# Altium footprint library RLC.PcbLib: 40 footprints (part 2 of 3)
Each footprint in its own frame and in the unit in brackets; x right, y up, seen from the top. Pads: shape width x height; smd on the part's side, far side on the other; paste and mask are expansions set on the pad; w line width, h text height; cw(c..) or ccw(c..) is an arc to the next point about the centre after c.
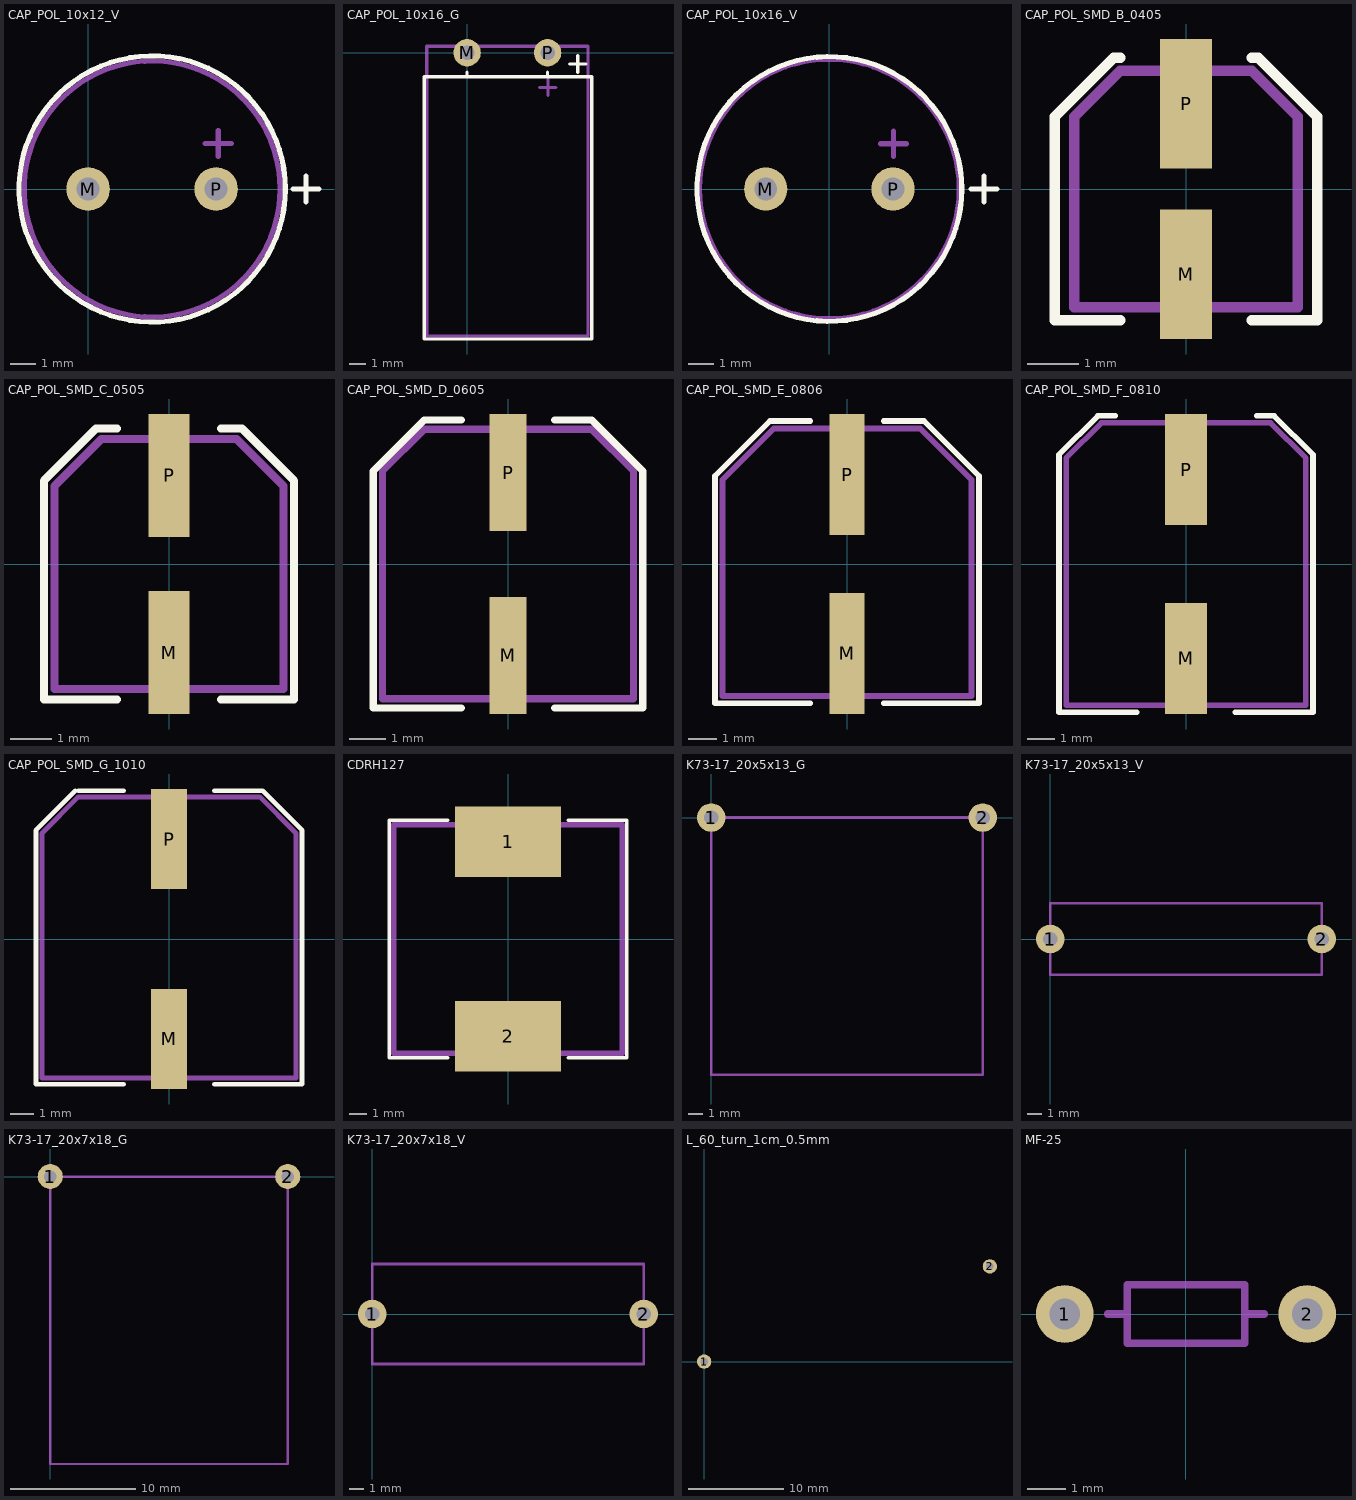
[diagram p1: the footprints below, top view; thin cyan lines are the x and y axes]

## CAP_POL_10x12_V [mm]
pads (2):
  round 1.7 hole 0.9: M(0,0) P(5,0)
Top Overlay:
  circle w0.2: c2.5,0 r5.2
  lines w0.2: 8.001,0 9.017,0 ; 8.509,-0.508 8.509,0.508
Mechanical 13:
  circle w0.2: c2.5,0 r5
  lines w0.2: 4.572,1.778 5.588,1.778 ; 5.08,1.27 5.08,2.286
  text ".Designator" at 0.381,-3.048 h2.5
3D body: height 13.03, standoff -3.48, extent -2.485,-5.098 7.565,4.953

## CAP_POL_10x16_G [mm]
pads (2):
  round 1.7 hole 0.9: M(0,0) P(5,0)
Top Overlay:
  lines w0.2: 0,-1.5 0,-1.2 ; 5,-1.5 5,-1.2 ; 6.368,-0.7 7.384,-0.7 ; 6.876,-1.208 6.876,-0.192 ; -2.667,-17.78 -2.667,-1.5 7.747,-1.5 7.747,-17.78 -2.667,-17.78
Mechanical 13:
  lines w0.2: 4.512,-2.159 5.528,-2.159 ; 5.02,-2.667 5.02,-1.651 ; -2.5,-17.6 -2.5,0.4 7.5,0.4 7.5,-17.6 -2.5,-17.6
  text ".Designator" at 0.381,-5.08 h2.5
3D body: height 10.53, standoff -3.18, extent -2.485,-17.608 7.565,0.381

## CAP_POL_10x16_V [mm]
pads (2):
  round 1.7 hole 0.9: M(-2.5,0) P(2.5,0)
Top Overlay:
  circle w0.2: c0,0 r5.2
  lines w0.2: 5.568,0 6.584,0 ; 6.076,-0.508 6.076,0.508
Mechanical 13:
  circle w0.2: c0,0 r5.1
  lines w0.2: 2.012,1.778 3.028,1.778 ; 2.52,1.27 2.52,2.286
  text ".Designator" at -2.159,-3.175 h2.5
3D body: height 16.53, standoff -3.74, extent -5.08,-5.025 4.971,5.025

## CAP_POL_SMD_B_0405 [mm]
pads (2):
  rect 1x2.5 smd: M(0,-1.65) P(0,1.65)
Top Overlay:
  lines w0.2: -1.27,-2.54 -2.54,-2.54 -2.54,1.397 -1.397,2.54 -1.27,2.54 ; 1.27,-2.54 2.54,-2.54 2.54,1.27 2.54,1.397 1.397,2.54 1.27,2.54
Mechanical 13:
  lines w0.2: -2.159,-2.286 2.159,-2.286 2.159,1.397 1.27,2.286 -1.27,2.286 -2.159,1.397 -2.159,-2.286
  text ".Designator" at -2.286,3.175 h2.5
3D body: height 5.41, standoff -0.01, extent -2.15,-2.314 2.15,2.286

## CAP_POL_SMD_C_0505 [mm]
pads (2):
  rect 1x3 smd: M(0,-2.159) P(0,2.159)
Top Overlay:
  lines w0.2: -1.27,-3.302 -3.048,-3.302 -3.048,1.651 -3.048,2.032 -1.778,3.302 -1.27,3.302 ; 1.27,-3.302 3.048,-3.302 3.048,2.032 1.778,3.302 1.27,3.302
Mechanical 13:
  lines w0.2: -2.794,-3.048 -2.794,1.905 -1.651,3.048 1.651,3.048 2.794,1.905 2.794,-3.048 -2.794,-3.048
  text ".Designator" at -0.762,-2.413 h2.5
3D body: height 5.41, standoff -0.01, extent -2.633,-2.95 2.667,2.95

## CAP_POL_SMD_D_0605 [mm]
pads (2):
  rect 1x3.2 smd: M(0,-2.5) P(0,2.5)
Top Overlay:
  lines w0.2: -1.27,-3.937 -3.683,-3.937 -3.683,2.54 -2.286,3.937 -1.27,3.937 ; 1.27,-3.937 3.683,-3.937 3.683,2.54 2.286,3.937 1.27,3.937
Mechanical 13:
  lines w0.2: -3.429,-3.683 3.429,-3.683 3.429,2.54 2.286,3.683 -2.286,3.683 -3.429,2.54 -3.429,-3.683
  text ".Designator" at -1.143,-2.921 h2.5
3D body: height 5.41, standoff -0.01, extent -3.298,-3.5 3.302,3.5

## CAP_POL_SMD_E_0806 [mm]
pads (2):
  rect 1.2x4.2 smd: M(0,-3.1) P(0,3.1)
Top Overlay:
  lines w0.2: -1.27,-4.826 -4.572,-4.826 -4.572,3.048 -2.667,4.953 -1.27,4.953 ; 1.27,-4.826 4.572,-4.826 4.572,3.048 2.667,4.953 1.27,4.953
Mechanical 13:
  lines w0.2: -4.318,-4.572 -4.318,2.921 -2.54,4.699 2.54,4.699 4.318,2.921 4.318,-4.572 -4.318,-4.572
  text ".Designator" at -1.524,-2.794 h2.5
3D body: height 6.2, standoff -0.01, extent -4.15,-4.445 4.15,4.555

## CAP_POL_SMD_F_0810 [mm]
pads (2):
  rect 1.5x4 smd: M(0,-3.4) P(0,3.4)
Top Overlay:
  lines w0.2: -2.54,5.334 -3.175,5.334 -4.572,3.937 -4.572,-5.334 -1.778,-5.334 ; 1.778,-5.334 4.572,-5.334 4.572,3.937 3.175,5.334 2.54,5.334
Mechanical 13:
  lines w0.2: -4.318,-5.08 4.318,-5.08 4.318,3.81 3.048,5.08 -3.048,5.08 -4.318,3.81 -4.318,-5.08
  text ".Designator" at -2.667,-0.635 h2.5
3D body: height 10.21, standoff -0.01, extent -4.15,-4.953 4.15,4.947

## CAP_POL_SMD_G_1010 [mm]
pads (2):
  rect 1.5x4.2 smd: M(0,-4.2) P(0,4.2)
Top Overlay:
  lines w0.2: -3.937,6.223 -5.588,4.572 -5.588,-6.096 -1.905,-6.096 ; -3.81,6.223 -1.905,6.223 ; 1.905,-6.096 5.588,-6.096 5.588,4.572 3.937,6.223 3.81,6.223 1.905,6.223
Mechanical 13:
  lines w0.2: -5.334,-5.842 5.334,-5.842 5.334,4.445 3.81,5.969 -3.81,5.969 -5.334,4.445 -5.334,-5.842
  text ".Designator" at -3.556,-1.016 h2.5
3D body: height 10.21, standoff -0.01, extent -5.15,-5.715 5.15,5.885

## CDRH127 [mm]
pads (2):
  rect 6x4 smd: 1(0,5.5) 2(0,-5.5)
Top Overlay:
  lines w0.2: -3.429,-6.731 -6.731,-6.731 -6.731,6.731 -3.429,6.731 ; 3.429,-6.731 6.731,-6.731 6.731,6.731 3.429,6.731
Mechanical 13:
  lines w0.3: -6.477,-6.477 6.477,-6.477 6.477,6.477 -6.477,6.477 -6.477,-6.477
  text ".Designator" at -4.572,-0.889 h2.5
3D body: height 8, standoff 0, extent -6.223,-6.223 6.223,6.223

## K73-17_20x5x13_G [mm]
pads (2):
  round 2 hole 1: 1(0,0) 2(19,0)
Mechanical 13:
  lines w0.2: 0,-18 0,0 19,0 19,-18 0,-18
  text ".Designator" at 4.572,-3.886 h2.5
3D body: height 5, standoff 0, extent 0.001,-18 18.999,-5.588

## K73-17_20x5x13_V [mm]
pads (2):
  round 2 hole 1: 1(0,0) 2(19,0)
Mechanical 13:
  lines w0.2: 0,-2.5 19,-2.5 19,0 19,2.5 0,2.5 0,0 0,-2.5
  text ".Designator" at 4.75,-0.762 h2.5
3D body: height 18, standoff 6, extent 0.001,-2.499 18.999,2.499

## K73-17_20x7x18_G [mm]
pads (2):
  round 2 hole 1: 1(0,0) 2(19,0)
Mechanical 13:
  lines w0.2: 0,-23 0,0 19,0 19,-23 0,-23
  text ".Designator" at 4.572,-3.886 h2.5
3D body: height 7, standoff 0, extent 0.001,-23 18.999,-5.588

## K73-17_20x7x18_V [mm]
pads (2):
  round 2 hole 1: 1(0,0) 2(19,0)
Mechanical 13:
  lines w0.2: 0,-3.5 0,3.5 19,3.5 19,-3.5 0,-3.5
  text ".Designator" at 4.674,-0.279 h2.5
3D body: height 22, standoff 4, extent 0,-3.545 18.999,3.5

## L_60_turn_1cm_0.5mm [mm]
pads (2):
  round 1.5 hole 0.8: 1(0,0) 2(30,10)
3D body: height 10.75, standoff -1.5, extent -0.254,-0.254 30.496,10.253

## MF-25 [mm]
pads (2):
  round 1.5 hole 0.8: 1(-3.15,0) 2(3.15,0)
Mechanical 13:
  lines w0.2: -2.032,0 -1.524,0 ; 1.524,0 2.032,0 ; -1.524,0 -1.524,-0.762 1.524,-0.762 1.524,0.762 -1.524,0.762 -1.524,0
  text ".Designator" at -1.27,1.27 h2.5
3D body: height 2.42, standoff -1.5, extent -3.455,-0.914 3.403,0.926